# Altium footprint library TSFP-3.PcbLib: 1 footprints
Each footprint in its own frame and in the unit in brackets; x right, y up, seen from the top. Pads: shape width x height; smd on the part's side, far side on the other; paste and mask are expansions set on the pad; w line width, h text height; cw(c..) or ccw(c..) is an arc to the next point about the centre after c.
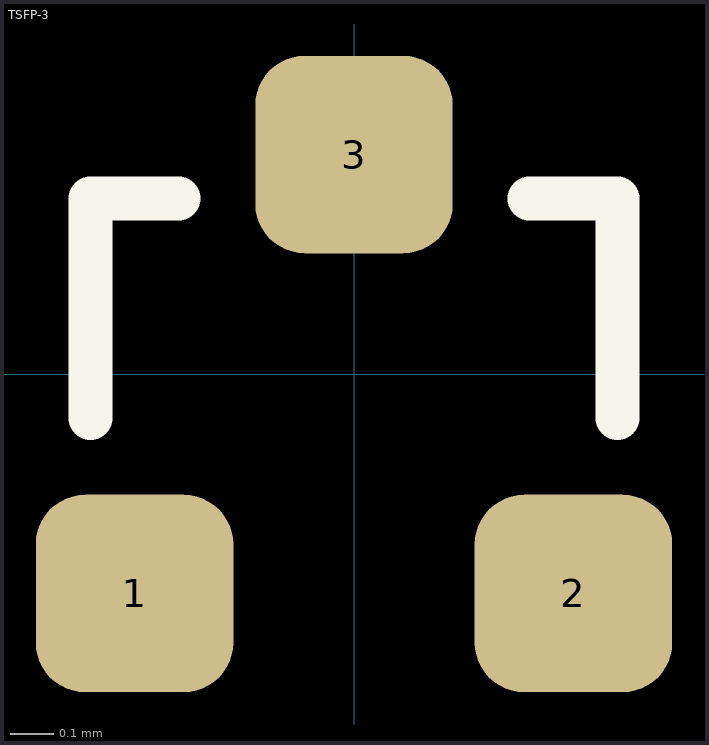
[diagram p0: the footprint, top view; thin cyan lines are the x and y axes]

## TSFP-3 [mm] "1.2x1.2mm"
height 1
pads (3):
  rrect50% 0.45x0.45 smd: 1(-0.5,-0.5) 2(0.5,-0.5) 3(0,0.5)
Top Overlay:
  lines w0.1: -0.6,-0.1 -0.6,0.4 -0.4,0.4 ; 0.4,0.4 0.6,0.4 0.6,-0.1
3D body: height 0.25, standoff 0, extent 0,0 0,0
3D body "TSFP-3.STEP": height 0.4, standoff 0, extent -0.625,-0.625 0.625,0.625